# Altium integrated library MAX17055ETB_T.IntLib: 1 symbol
Pins are listed as number, name and electrical type; pins without a type are passive.

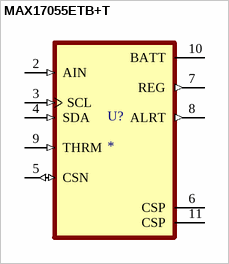
[diagram p0: symbol MAX17055ETB+T]

## MAX17055ETB+T
designator U?
Battery Battery Monitor IC Multi-Chemistry 10-TDFN (2.5x2); MP: MAX17055ETB+T; MF: Maxim Integrated Products; Check_prices: https://www.snapeda.com/parts/MAX17055ETB+T/Maxim+Integrated/view-part/?ref=eda; Package: None; Value: *; Availability: In Stock; Purchase-URL: https://pricing.snapeda.com/search/part/MAX17055ETB+T/?ref=eda; SnapEDA_Link: https://www.snapeda.com/parts/MAX17055ETB+T/Maxim+Integrated/view-part/?ref=snap; Price: None
footprint SON40P200X250X80-11N
pins: 2 AIN (in), 3 SCL (in), 4 SDA (in), 5 CSN (io), 6 CSP (power), 7 REG (out), 8 ALRT (out), 9 THRM (in), 10 BATT (power), 11 CSP (power)